# EAGLE library part CY8C4100S-32PIN (library FlashPCB_ICs)
CY8C4146LQI - 32 Bit Microcontroller IC Technical Specifications: Core Processor: ARM® Cortex®-M0+ Core Size: 32-Bit Single-Core Speed: 48MHz Connectivity: I²C, IrDA, LINbus, SPI, UART/USART Peripherals: Brown-out Detect/Reset, CapSense, LCD, POR, PWM, WDT Number of I/O: 27 RAM Size: 8K x 8 Voltage - Supply (Vcc/Vdd): 1.71V ~ 5.5V Operating Temperature: -40°C ~ 85°C (TA) Component Search: CY8C41xx, PSoC™ 4 MCU: PSoC™ 4100S Based on Arm® Cortex®-M0+ CPU <[FLASHPCB URL]> Datasheet: CY8C41xx, PSoC™ 4 MCU: PSoC™ 4100S Based on Arm® Cortex®-M0+ CPU <https://www.infineon.com/dgdl/Infineon-PSOC_4_PSOC_4100S_DATASHEET_PROGRAMMABLE_SYSTEM-ON-CHIP_(PSOC)-DataSheet-v15_00-EN.pdf?fileId=8ac78c8c7d0d8da4017d0eda5fc45c69&utm_source=cypress&utm_medium=referral&utm_campaign=202110_globe_en_all_integration-files>
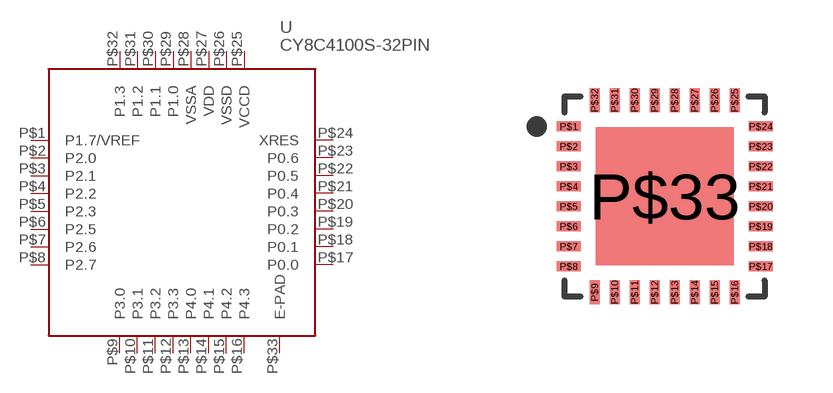
[diagram p37: symbol with the pads of 32-QFN(5X5)-EXPOSED-PAD; footprint 32-QFN(5X5)-EXPOSED-PAD]

Designator prefix U

## CY8C4100S-32PIN  [32-QFN(5X5)-EXPOSED-PAD]
P$1  P1.7/VREF
P$2  P2.0
P$3  P2.1
P$4  P2.2
P$5  P2.3
P$6  P2.5
P$7  P2.6
P$8  P2.7
P$9  P3.0
P$10  P3.1
P$11  P3.2
P$12  P3.3
P$13  P4.0
P$14  P4.1
P$15  P4.2
P$16  P4.3
P$17  P0.0
P$18  P0.1
P$19  P0.2
P$20  P0.3
P$21  P0.4
P$22  P0.5
P$23  P0.6
P$24  XRES
P$25  VCCD
P$26  VSSD
P$27  VDD
P$28  VSSA
P$29  P1.0
P$30  P1.1
P$31  P1.2
P$32  P1.3
P$33  E-PAD

## Footprint 32-QFN(5X5)-EXPOSED-PAD (pad centres in mm)
smd 0.6 x 0.25: P$1 -2.4,1.75; P$2 -2.4,1.25; P$3 -2.4,0.75; P$4 -2.4,0.25; P$5 -2.4,-0.25; P$6 -2.4,-0.75; P$7 -2.4,-1.25; P$8 -2.4,-1.75; P$17 2.4,-1.75; P$18 2.4,-1.25; P$19 2.4,-0.75; P$20 2.4,-0.25; P$21 2.4,0.25; P$22 2.4,0.75; P$23 2.4,1.25; P$24 2.4,1.75
smd 0.25 x 0.6: P$9 -1.75,-2.4; P$10 -1.25,-2.4; P$11 -0.75,-2.4; P$12 -0.25,-2.4; P$13 0.25,-2.4; P$14 0.75,-2.4; P$15 1.25,-2.4; P$16 1.75,-2.4; P$25 1.75,2.4; P$26 1.25,2.4; P$27 0.75,2.4; P$28 0.25,2.4; P$29 -0.25,2.4; P$30 -0.75,2.4; P$31 -1.25,2.4; P$32 -1.75,2.4
smd 3.45 x 3.45: P$33 0,0